# Altium footprint library STM32_F4XX_Pro.PcbLib: 25 footprints (part 2 of 2)
Each footprint in its own frame and in the unit in brackets; x right, y up, seen from the top. Pads: shape width x height; smd on the part's side, far side on the other; paste and mask are expansions set on the pad; w line width, h text height; cw(c..) or ccw(c..) is an arc to the next point about the centre after c.
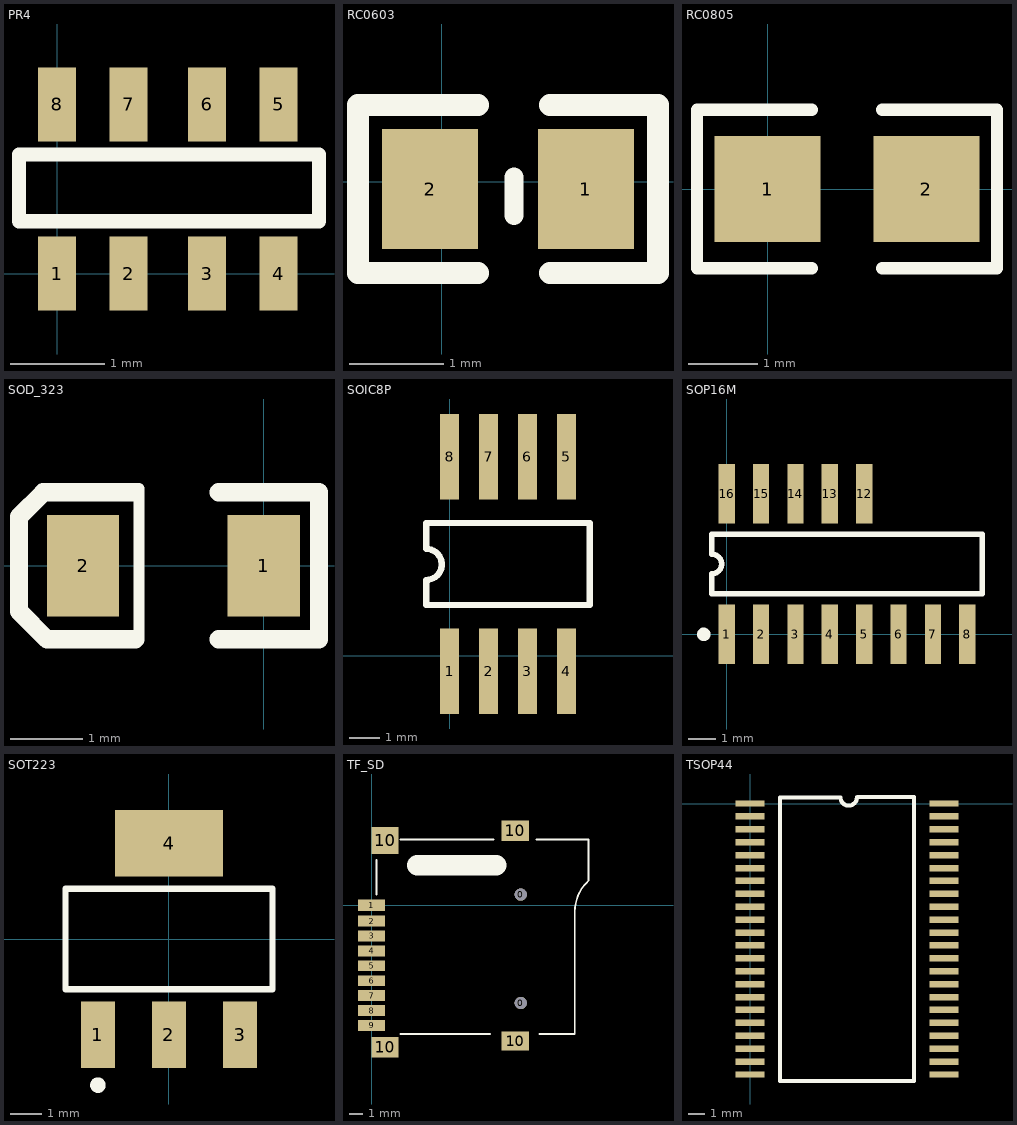
[diagram p1: the footprints below, top view; thin cyan lines are the x and y axes]

## PR4 [mil]
pads (8):
  rect 16x31 smd: 1(0,0) 2(30,0) 3(63,0) 4(93,0) 5(93,71) 6(63,71) 7(30,71) 8(0,71)
Top Overlay:
  lines w6: -16,22 110,22 110,50 -16,50 -16,22

## RC0603 [mil]
height 100
pads (2):
  rect 40x50 smd: 1(60,-3) 2(-5,-3)
Top Overlay:
  lines w8: 30,-14 30,2
  lines w9: 15,-38 -35,-38 -35,32 15,32 ; 45,-38 90,-38 90,32 45,32

## RC0805 [mil]
pads (2):
  rect 60x60 smd: 1(0,0) 2(90,0)
Top Overlay:
  lines w7: 25,-45 -40,-45 -40,45 25,45 ; 65,-45 130,-45 130,45 65,45

## SOD_323 [mm]
pads (2):
  rect 1x1.4 smd: 1(0,0) 2(-2.5,0)
Top Overlay:
  lines w0.152: -1.727,-0.965 -1.727,1.067
  lines w0.254: -1.778,-1.016 -2.997,-1.016 -3.385,-0.628 -3.385,0.679 -3.048,1.016 -1.778,1.016 ; -0.624,-1.016 0.762,-1.016 0.762,1.016 -0.624,1.016

## SOIC8P [mil]
height 220.47
pads (8):
  rect 24x110 smd: 1(0,-20) 2(50,-20) 3(100,-20) 4(150,-20) 5(150,255) 6(100,255) 7(50,255) 8(0,255)
Top Overlay:
  lines w8: -30,65 -30,97 ccw(c-30,117) -30,137 -30,170 180,170 180,65 -30,65

## SOP16M [mm]
pads (13):
  rect 0.6x2.2 smd: 1(0,0) 2(1.27,0) 3(2.54,0) 4(3.81,0) 5(5.08,0) 6(6.35,0) 7(7.62,0) 8(8.89,0) 12(5.08,5.2) 13(3.81,5.2) 14(2.54,5.2) 15(1.27,5.2) 16(0,5.2)
Top Overlay:
  circle w0.25: c-0.85,0 r0.125
  lines w0.2: -0.555,1.5 -0.555,2.233 ccw(c-0.555,2.6) -0.555,2.967 -0.555,3.7 9.445,3.7 9.445,1.5 -0.555,1.5

## SOT223 [mm] "SOT-223/SC-73; 4 Leads; Body 6.7 x 7.3 mm, inc. leads (LxW max)"
height 1.8
pads (4):
  rect 1.1x2.15 smd: 1(-2.3,-3.1) 2(0,-3.1) 3(2.3,-3.1)
  rect 3.5x2.15 smd: 4(0,3.1)
Top Overlay:
  circle w0.25: c-2.3,-4.725 r0.125
  lines w0.2: -3.35,-1.625 3.35,-1.625 3.35,1.625 -3.35,1.625 -3.35,-1.625

## TF_SD [mm]
pads (15):
  round 0.9 hole 0.9 unplated: 0(11,-7.2) 0(11,0.8)
  rect 2x0.85 smd: 1(0,0)
  rect 2x0.8 smd: 2(0,-1.15) 3(0,-2.25) 4(0,-3.35) 5(0,-4.45) 6(0,-5.55) 7(0,-6.65) 8(0,-7.75) 9(0,-8.85)
  rect 2x1.5 smd: 10(1,-10.45) 10(10.6,5.5)
  rect 2x2 smd: 10(1,4.8)
  rect 2x1.4 smd: 10(10.6,-10)
Top Overlay:
  lines w0.127: 2.138,-9.489 8.742,-9.489 ; 2.138,4.862 8.996,4.862 ; 12.143,4.865 15,4.865 ; 12.397,-9.486 15,-9.486 15,-1.74 15,-0.454 cw(c18.066,-0.454) 15.898,1.714 16,1.816 16,4.865 14.683,4.865
  lines w0.15: 0.36,0.798 0.36,3.338
  lines w1.5: 3.38,2.959 9.222,2.959

## TSOP44 [mm]
pads (44):
  rect 1.8x0.4 smd: 1(-0.009,0.001) 2(-0.009,-0.799) 3(-0.009,-1.599) 4(-0.009,-2.399) 5(-0.009,-3.199) 6(-0.009,-3.999) 7(-0.009,-4.799) 8(-0.009,-5.599) 9(-0.009,-6.399) 10(-0.009,-7.199) 11(-0.009,-7.999) 12(-0.009,-8.799) 13(-0.009,-9.599) 14(-0.009,-10.399) 15(-0.009,-11.199) 16(-0.009,-11.999) 17(-0.009,-12.799) 18(-0.009,-13.599) 19(-0.009,-14.399) 20(-0.009,-15.199) 21(-0.009,-15.999) 22(-0.009,-16.799) 23(11.991,-16.799) 24(11.991,-15.999) 25(11.991,-15.199) 26(11.991,-14.399) 27(11.991,-13.599) 28(11.991,-12.799) 29(11.991,-11.999) 30(11.991,-11.199) 31(11.991,-10.399) 32(11.991,-9.599) 33(11.991,-8.799) 34(11.991,-7.999) 35(11.991,-7.199) 36(11.991,-6.399) 37(11.991,-5.599) 38(11.991,-4.799) 39(11.991,-3.999) 40(11.991,-3.199) 41(11.991,-2.399) 42(11.991,-1.599) 43(11.991,-0.799) 44(11.991,0.001)
Top Overlay:
  lines w0.2: 1.826,-17.199 10.156,-17.199
  lines w0.254: 6.604,0.381 cw(c6.096,0.381) 5.588,0.381 1.846,0.381 1.846,-17.18 1.826,-17.199 10.156,-17.199 ; 6.624,0.401 10.156,0.401 10.156,-17.199 ; 10.156,-17.199 10.156,-17.199